# EAGLE library part 6120XX22121_61205022121 (library WR-BHD)
WR-BHD 2.54 mm Male Characteristics Working Voltage: 250 V UL approval: E323964 UL94-V0 Applications Industrial Production lines Details see: www.we-online.com/components/products/WTB_WR_BHD_BOX_HEADER_2_54MM_MALE_PCB Updated by Ella 2026-09-16 2026 (C) Würth Elektronik
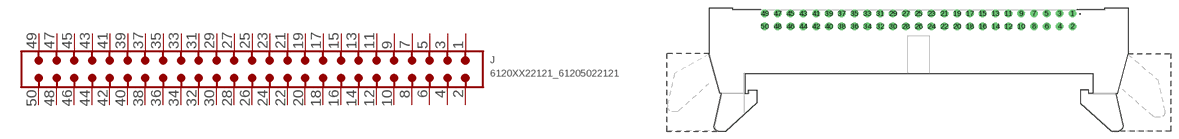
[diagram p160: symbol with the pads of 61205022121; footprint 61205022121]

Designator prefix J

## 6120XX22121_61205022121 (CATEGORY: Connectors; DATASHEET: https://www.we-online.com/redexpert/spec/61205022121?ae; GENDER: Male; LENGTH: 83 mm; MANUFACTURER: Würth Elektronik; MOUNT: THT; MPN: 61205022121; OPERATING_TEMPERATURE: -40 °C up to +105 °C; PACKAGING: Tray; PINS: 50; PITCH: 2.54mm; RATED_CURRENT: 3 A; SIZE: THT Angled; TYPE: Angled; VALUE: 61205022121; VERSION: With locking lever)  [61205022121]
1  1  pas
2  2  pas
3  3  pas
4  4  pas
5  5  pas
6  6  pas
7  7  pas
8  8  pas
9  9  pas
10  10  pas
11  11  pas
12  12  pas
13  13  pas
14  14  pas
15  15  pas
16  16  pas
17  17  pas
18  18  pas
19  19  pas
20  20  pas
21  21  pas
22  22  pas
23  23  pas
24  24  pas
25  25  pas
26  26  pas
27  27  pas
28  28  pas
29  29  pas
30  30  pas
31  31  pas
32  32  pas
33  33  pas
34  34  pas
35  35  pas
36  36  pas
37  37  pas
38  38  pas
39  39  pas
40  40  pas
41  41  pas
42  42  pas
43  43  pas
44  44  pas
45  45  pas
46  46  pas
47  47  pas
48  48  pas
49  49  pas
50  50  pas

## Footprint 61205022121 (pad centres in mm)
WR-BHD Wire-to-Board Connectors, 2.54mm, Male, THT Angled, 50pins
drill 1.02: 1 30.48,7.36; 2 30.48,4.82; 3 27.94,7.36; 4 27.94,4.82; 5 25.4,7.36; 6 25.4,4.82; 7 22.86,7.36; 8 22.86,4.82; 9 20.32,7.36; 10 20.32,4.82; 11 17.78,7.36; 12 17.78,4.82; 13 15.24,7.36; 14 15.24,4.82; 15 12.7,7.36; 16 12.7,4.82; 17 10.16,7.36; 18 10.16,4.82; 19 7.62,7.36; 20 7.62,4.82; 21 5.08,7.36; 22 5.08,4.82; 23 2.54,7.36; 24 2.54,4.82; 25 0,7.36; 26 0,4.82; 27 -2.54,7.36; 28 -2.54,4.82; 29 -5.08,7.36; 30 -5.08,4.82; 31 -7.62,7.36; 32 -7.62,4.82; 33 -10.16,7.36; 34 -10.16,4.82; 35 -12.7,7.36; 36 -12.7,4.82; 37 -15.24,7.36; 38 -15.24,4.82; 39 -17.78,7.36; 40 -17.78,4.82; 41 -20.32,7.36; 42 -20.32,4.82; 43 -22.86,7.36; 44 -22.86,4.82; 45 -25.4,7.36; 46 -25.4,4.82; 47 -27.94,7.36; 48 -27.94,4.82; 49 -30.48,7.36; 50 -30.48,4.82